# EAGLE library part 50281-015 (library con-aces-50281-series)
ACES CONNECTORS 50281 SERIES ACES Connecors 50281
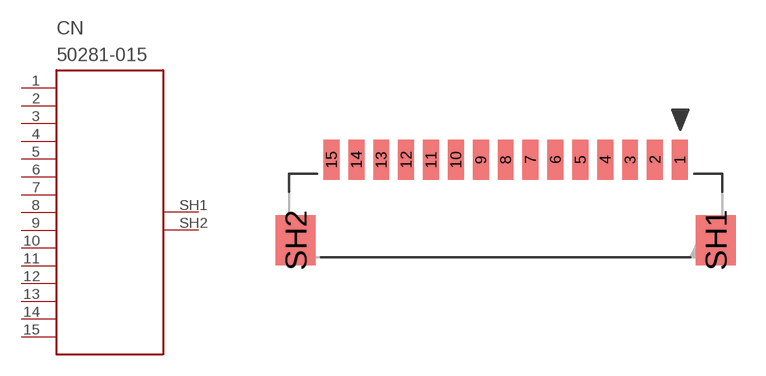
[diagram p10: symbol with the pads of 50281-015; footprint 50281-015]

Designator prefix CN

## 50281-015  [50281-015]
1  1
2  2
3  3
4  4
5  5
6  6
7  7
8  8
9  9
10  10
11  11
12  12
13  13
14  14
15  15
SH1  SH1
SH2  SH2

## Footprint 50281-015 (pad centres in mm)
smd 0.8 x 2: 1 8.75,1.9; 2 7.5,1.9; 3 6.25,1.9; 4 5,1.9; 5 3.75,1.9; 6 2.5,1.9; 7 1.25,1.9; 8 0,1.9; 9 -1.25,1.9; 10 -2.5,1.9; 11 -3.75,1.9; 12 -5,1.9; 13 -6.25,1.9; 14 -7.5,1.9; 15 -8.75,1.9
smd 2 x 2.5: SH1 10.55,-2.15; SH2 -10.55,-2.15